# Altium schematic symbol library kmilo17pet-TI_BattMgmt.SchLib: 950 symbols (part 4 of 60)
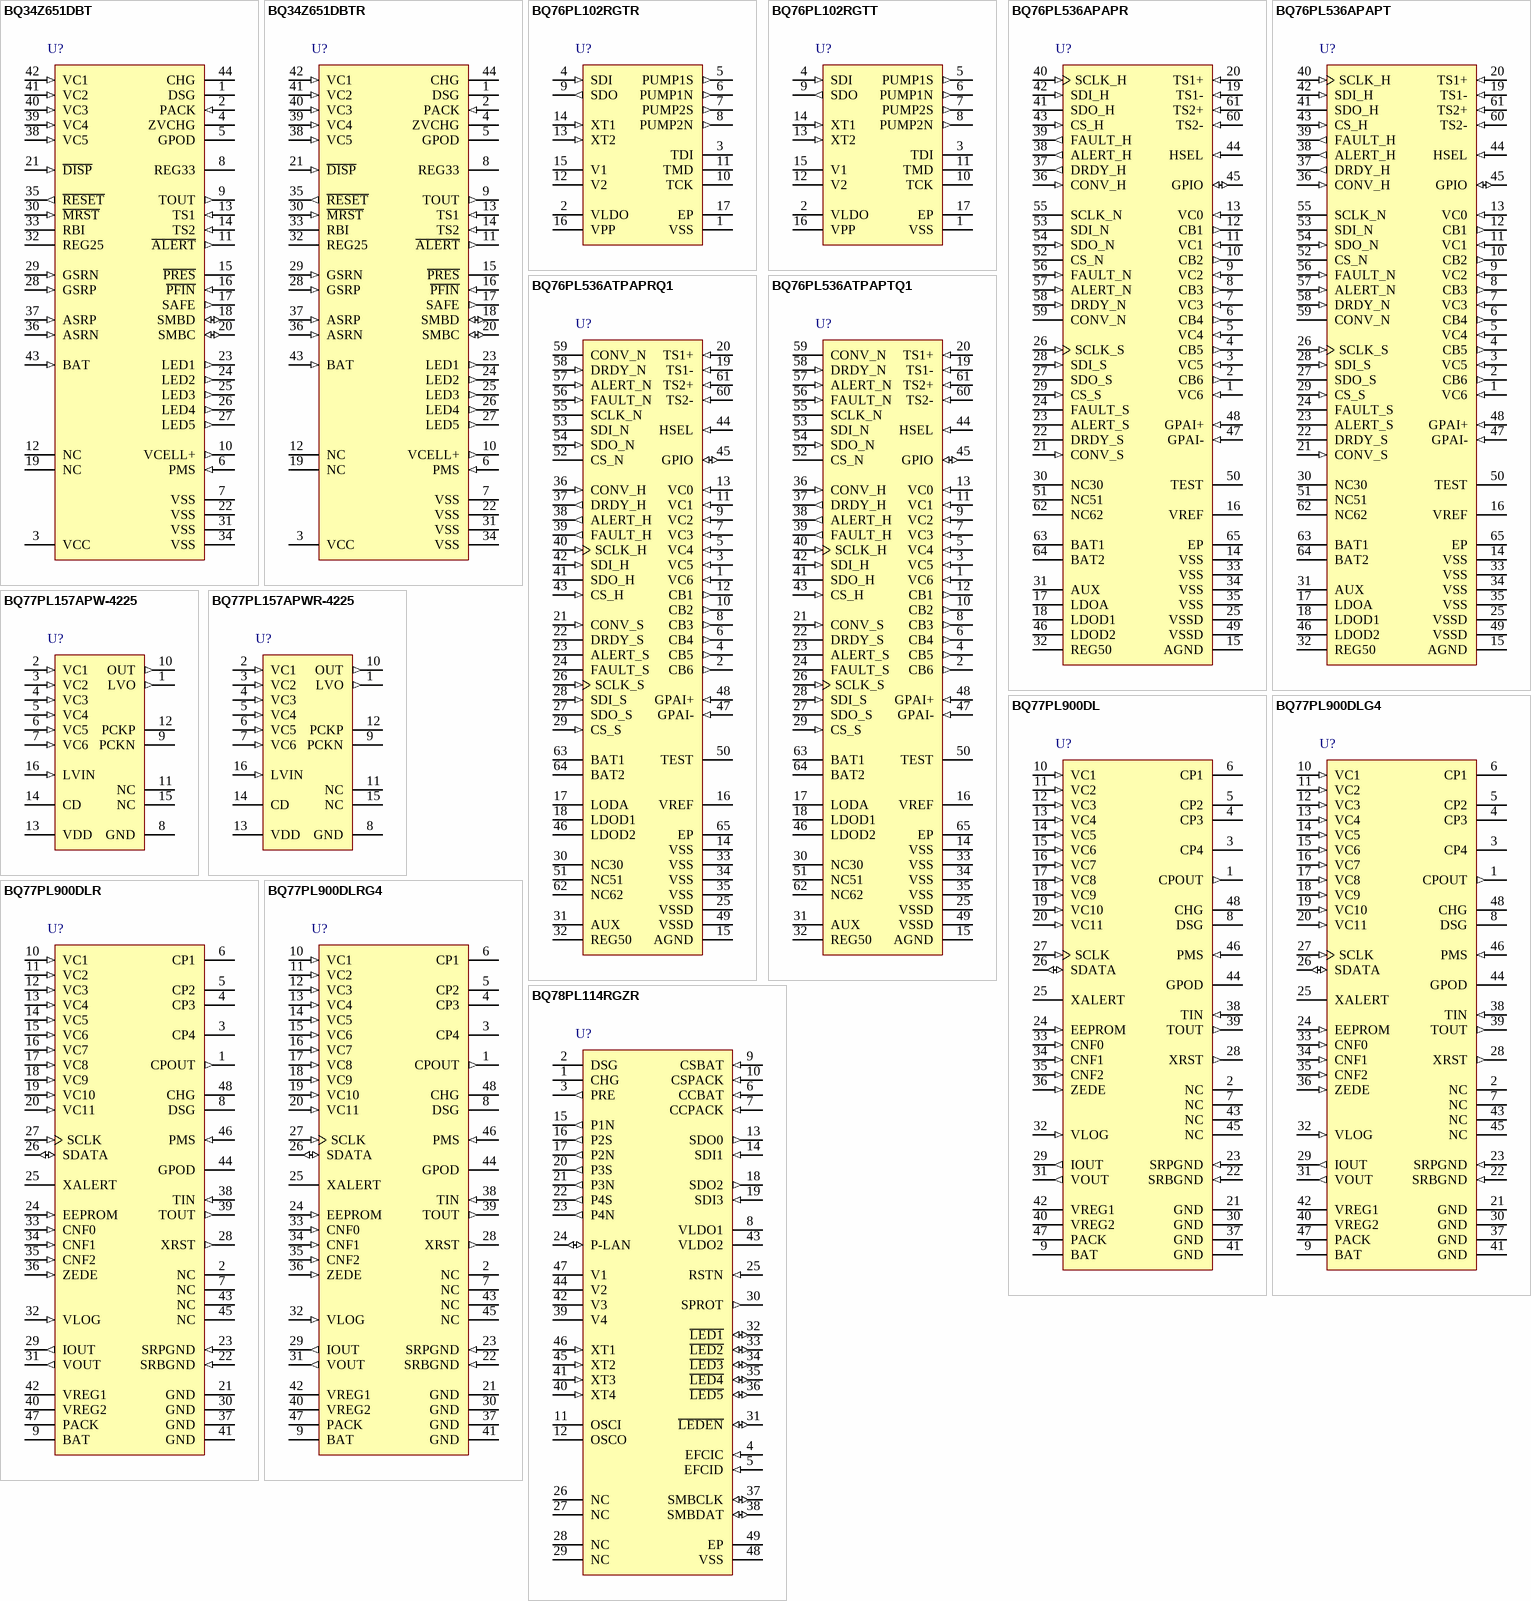
[diagram p37: symbols BQ34Z651DBT to BQ78PL114RGZR]

## BQ34Z651DBTR
designator U?
SBS 1.1 Compliant Gas Gauge with Impedance Track Technology Design for Low Temperature Environment, -40 to 85 degC, 44-pin TSSOP (DBT), Green (RoHS & no Sb/Br); PartNumber: BQ34Z651DBTR; Manufacturer: Texas Instruments; Lead Acid: N; Li-Ion: Y; SubFamily: Battery Fuel Gauge; DatasheetVersion: SLUSAL7; PackageVersion: 38596; PackageReference: DBT44; PackageDescription: 44-Pin Thin Shrink Small Outline Package 0.5 mm Pitch; Supplier 1: Digi-Key; Supplier Part Number 1: BQ34Z651DBTR-ND; Supplier Part Number 3: 595-BQ34Z651DBTR; Eco-Plan: Green (RoHS & no Sb/Br); Li-Polymer: N; NiCd: N; NiMH: N; Over Voltage Protection: N; Mounting Technology: Surface Mount; ComponentLink1Description: Datasheet; ComponentLink1URL: http://www.ti.com/general/docs/lit/getliterature.tsp?genericPartNumber=BQ34Z651&fileType=pdf
footprint DBT44_N (TSSOP, 44-Leads, Body 11.3x4.4mm, Pitch 0.5mm, IPC Medium Density)
footprint DBT44_L (TSSOP, 44-Leads, Body 11.3x4.4mm, Pitch 0.5mm, IPC High Density)
footprint DBT44_M (TSSOP, 44-Leads, Body 11.3x4.4mm, Pitch 0.5mm, IPC Low Density)
pins: 1 DSG "High side N-chan discharge FET gate drive", 2 PACK (in) "Battery pack input voltage sense input. It also serves as device wake up when device is in shutdown mode.", 3 VCC (power) "Positive device supply input. Connect to the center connection of the CHG FET and DSG FET to ensure device supply either from battery stack or battery pack input", 4 ZVCHG "P-chan pre-charge FET gate drive", 5 GPOD "High voltage general purpose open drain output. Can be configured to be used in pre-charge condition", 6 PMS (in) "Pre-charge mode setting input. Connect to PACK to enable 0v pre-charge using charge FET connected at CHG pin. Connect to VSS to disable 0-V pre-charge using charge FET connected at CHG pin.", 7 VSS (power) "Negative supply voltage input. Connect all VSS pins together for operation of device", 8 REG33 (power) "3.3-V regulator output. Connect at least a 2.2-uF capacitor to REG33 and VSS", 9 TOUT (out) "Thermistor bias supply output", 10 VCELL+ (out) "Internal cell voltage multiplexer and amplifier output. Connect a 0.1-uF capacitor to VCELL+ and VSS", 11 ~{ALERT} (out) "Alert output. In case of short circuit condition, overload condition and watchdog time out this pin will be triggered", 12 NC "Not used--leave floating.", 13 TS1 (in) "1st Thermistor voltage input connection to monitor temperature", 14 TS2 (in) "2nd Thermistor voltage input connection to monitor temperature", 15 ~{PRES} "Active low input to sense system insertion. Typically requires additional ESD protection.", 16 ~{PFIN} (in) "Active low input to detect secondary protector status, and to allow the bq20z655-R1 to report the status of the 2nd level protection input.", 17 SAFE (out) "Active high output to enforce additional level of safety protection; e.g., fuse blow.", 18 SMBD (io) "SMBus data open-drain bidirectional pin used to transfer address and data to and from the bq20z655-R1", 19 NC "Not used--leave floating.", 20 SMBC (io) "SMBus clock open-drain bidirectional pin used to clock the data transfer to and from the bq20z655-R1", 21 ~{DISP} (in) "Input: In LED mode, this is the display enable input.", 22 VSS (power) "Negative supply voltage input. Connect all VSS pins together for operation of device", 23 LED1 (out) "LED1 display segment that drives an external LED depending on the firmware configuration", 24 LED2 (out) "LED2 display segment that drives an external LED depending on the firmware configuration", 25 LED3 (out) "LED3 display segment that drives an external LED depending on the firmware configuration", 26 LED4 (out) "LED4 display segment that drives an external LED depending on the firmware configuration", 27 LED5 (out) "LED5 display segment that drives an external LED depending on the firmware configuration", 28 GSRP (in) "Coulomb counter differential input. Connect to one side of the sense resistor", 29 GSRN (in) "Coulomb counter differential input. Connect to one side of the sense resistor", 30 ~{MRST} (in) "Master reset input that forces the device into reset when held low. Must be held high for normal operation. Connect to R\E\S\E\T\ for correct operation of device", 31 VSS (power) "Negative supply voltage input. Connect all VSS pins together for operation of device", 32 REG25 (power) "2.5V regulator output. Connect at least a 1-mF capacitor to REG25 and VSS", 33 RBI (power) "RAM / Register backup input. Connect a capacitor to this pin and VSS to protect loss of RAM/Register data in case of short circuit condition.", 34 VSS (power) "Negative supply voltage input. Connect all VSS pins together for operation of device", 35 ~{RESET} (out) "Reset output. Connect to M\S\R\T\.", 36 ASRN (in) "Short circuit and overload detection differential input. Connect to sense resistor", 37 ASRP (in) "Short circuit and overload detection differential input. Connect to sense resistor", 38 VC5 (in) "Cell voltage sense input and cell balancing input for the negative voltage of the bottom cell in cell stack.", 39 VC4 (in) "Cell voltage sense input and cell balancing input for the positive voltage of the bottom cell and the negative voltage of the second lowest cell in cell stack.", 40 VC3 (in) "Cell voltage sense input and cell balancing input for the positive voltage of the second lowest cell in cell stack and the negative voltage of the second highest cell in 4 cell applications.", 41 VC2 (in) "Cell voltage sense input and cell balancing input for the positive voltage of the second highest cell and the negative voltage of the highest cell in 4 cell applications. Connect to VC3 in 2 cell stack applications.", 42 VC1 (in) "Cell voltage sense input and cell balancing input for the positive voltage of the highest cell in cell stack in 4 cell applications. Connect to VC2 in 2- or 3-stack applications.", 43 BAT (in) "Battery stack voltage sense input.", 44 CHG "High side N-channel charge FET gate drive"

## BQ76PL102RGTR
designator U?
PowerLAN Dual-Cell Li-Ion Battery Monitor with PowerPump Cell Balancing, -40 to 85 degC, 16-pin QFN (RGT), Green (RoHS & no Sb/Br); PartNumber: BQ76PL102RGTR; Manufacturer: Texas Instruments; Lead Acid: N; Li-Ion: Y; SubFamily: Battery Fuel Gauge; DatasheetVersion: SLUS887A; PackageVersion: revH, Oct-2011; PackageReference: RGT16-1650X1650TP; PackageDescription: 16-Pin Plastic Quad Flat No-Lead, 3 x 3 mm Body, 0.5 mm Pitch, 1.7 x 1.7 mm Exposed Pad; Supplier 1: Digi-Key; Supplier Part Number 1: 296-27731-2-ND; Supplier Part Number 3: 296-27731-6-ND; Eco-Plan: Green (RoHS & no Sb/Br); Li-Polymer: Y; NiCd: N; NiMH: N; Over Voltage Protection: N; Mounting Technology: Surface Mount; Code_JEDEC: MO-220; ComponentLink1Description: Datasheet; ComponentLink1URL: http://www.ti.com/general/docs/lit/getliterature.tsp?genericPartNumber=BQ76PL102&fileType=pdf
footprint RGT16-1650X1650TP (QFN, 16-Leads, Body 3x3mm, Pitch 0.5mm, Thermal Pad 1.7x1.7mm, TI Recommended)
pins: 1 VSS (power) "Connect to most-negative cell voltage (cell 1 negative)", 2 VLDO (power) "Low-dropout regulator output - connect to VPP (bypass with 4.7 uF capacitor)", 3 TDI "Do not connect", 4 SDI (in) "PowerLAN serial data input from lower south, downstream part", 5 PUMP1S (out) "Charge-balance gate drive for cell 1 south", 6 PUMP1N (out) "Charge-balance gate drive for cell 1 north", 7 PUMP2S (out) "Charge-balance gate drive cell 2 south", 8 PUMP2N (out) "Charge-balance gate drive cell 2 north", 9 SDO (out) "PowerLAN serial data output to north, upstream part", 10 TCK "Do not connect", 11 TMD "Do not connect", 12 V2 (power) "Connect to most-positive cell voltage (cell 2 positive)", 13 XT2 (in) "External temperature sensor 2 input (calibrated 50 uA)", 14 XT1 (in) "External temperature sensor 1 input (calibrated 50 uA)", 15 V1 (power) "Midpoint cell connection (cell 1 positive and cell 2 negative)", 16 VPP (power) "Connect to VLDO", 17 EP (power) "Thermal pad - connect to VSS"

## BQ76PL102RGTT
designator U?
PowerLAN Dual-Cell Li-Ion Battery Monitor with PowerPump Cell Balancing, -40 to 85 degC, 16-pin QFN (RGT), Green (RoHS & no Sb/Br); PartNumber: BQ76PL102RGTT; Manufacturer: Texas Instruments; Lead Acid: N; Li-Ion: Y; SubFamily: Battery Fuel Gauge; DatasheetVersion: SLUS887A; PackageVersion: revH, Oct-2011; PackageReference: RGT16-1650X1650TP; PackageDescription: 16-Pin Plastic Quad Flat No-Lead, 3 x 3 mm Body, 0.5 mm Pitch, 1.7 x 1.7 mm Exposed Pad; Supplier 1: Digi-Key; Supplier Part Number 1: 296-25333-2-ND; Supplier Part Number 3: 296-25333-6-ND; Eco-Plan: Green (RoHS & no Sb/Br); Li-Polymer: Y; NiCd: N; NiMH: N; Over Voltage Protection: N; Mounting Technology: Surface Mount; Code_JEDEC: MO-220; ComponentLink1Description: Datasheet; ComponentLink1URL: http://www.ti.com/general/docs/lit/getliterature.tsp?genericPartNumber=BQ76PL102&fileType=pdf
footprint RGT16-1650X1650TP (QFN, 16-Leads, Body 3x3mm, Pitch 0.5mm, Thermal Pad 1.7x1.7mm, TI Recommended)
pins: 1 VSS (power) "Connect to most-negative cell voltage (cell 1 negative)", 2 VLDO (power) "Low-dropout regulator output - connect to VPP (bypass with 4.7 uF capacitor)", 3 TDI "Do not connect", 4 SDI (in) "PowerLAN serial data input from lower south, downstream part", 5 PUMP1S (out) "Charge-balance gate drive for cell 1 south", 6 PUMP1N (out) "Charge-balance gate drive for cell 1 north", 7 PUMP2S (out) "Charge-balance gate drive cell 2 south", 8 PUMP2N (out) "Charge-balance gate drive cell 2 north", 9 SDO (out) "PowerLAN serial data output to north, upstream part", 10 TCK "Do not connect", 11 TMD "Do not connect", 12 V2 (power) "Connect to most-positive cell voltage (cell 2 positive)", 13 XT2 (in) "External temperature sensor 2 input (calibrated 50 uA)", 14 XT1 (in) "External temperature sensor 1 input (calibrated 50 uA)", 15 V1 (power) "Midpoint cell connection (cell 1 positive and cell 2 negative)", 16 VPP (power) "Connect to VLDO", 17 EP (power) "Thermal pad - connect to VSS"

## BQ76PL536APAPR
designator U?
Lithium-Ion Battery Monitor and Secondary Protection IC for Electric and Hybrid, -40 to 85 degC, 64-pin HTQFP (PAP), Green (RoHS & no Sb/Br); PartNumber: BQ76PL536APAPR; Manufacturer: Texas Instruments; Lead Acid: N; Li-Ion: Y; SubFamily: Lithium Ion Protection; DatasheetVersion: SLUSAD3; PackageVersion: revC, Aug-2003; PackageReference: PAP64-5900X5900TP; PackageDescription: 64-Pin PowerPAD Plastic Quad Flatpack, 10 x 10 mm Body, 0.5 mm Pitch, Exposed Pad; Supplier 1: Digi-Key; Supplier Part Number 1: BQ76PL536APAPR-ND; Supplier Part Number 3: 595-BQ76PL536APAPR; Eco-Plan: Green (RoHS & no Sb/Br); Li-Polymer: Y; NiCd: N; NiMH: N; Over Voltage Protection: Y; Mounting Technology: Surface Mount; Code_JEDEC: MS-026; ComponentLink1Description: Datasheet; ComponentLink1URL: http://www.ti.com/general/docs/lit/getliterature.tsp?genericPartNumber=BQ76PL536A&fileType=pdf
footprint PAP64-5900X5900TP_N (Thin QFP, 64-Leads, Body 10x10mm, Pitch 0.5mm, Thermal Pad 6.5x6.5mm, IPC Medium Density)
footprint PAP64-5900X5900TP_L (Thin QFP, 64-Leads, Body 10x10mm, Pitch 0.5mm, Thermal Pad 6.5x6.5mm, IPC High Density)
footprint PAP64-5900X5900TP_M (Thin QFP, 64-Leads, Body 10x10mm, Pitch 0.5mm, Thermal Pad 6.5x6.5mm, IPC Low Density)
pins: 1 VC6 (in) "Sense voltage input terminal for the positive terminal of the sixth cell", 2 CB6 (out) "Cell-balance control output", 3 VC5 (in) "Sense voltage input terminal for the positive terminal of the fifth cell", 4 CB5 (out) "Cell-balance control output", 5 VC4 (in) "Sense voltage input terminal for the positive terminal of the fourth cell", 6 CB4 (out) "Cell-balance control output", 7 VC3 (in) "Sense voltage input terminal for the positive terminal of the third cell", 8 CB3 (out) "Cell-balance control output", 9 VC2 (in) "Sense voltage input terminal for the positive terminal of the second cell", 10 CB2 (out) "Cell-balance control output", 11 VC1 (in) "Sense voltage input terminal for positive terminal of the first cell", 12 CB1 (out) "Cell-balance control output", 13 VC0 (in) "Sense-voltage input terminal for negative terminal of first cell (VSS)", 14 VSS (power), 15 AGND (power) "Internal analog VREF (-)", 16 VREF "Internal analog voltage reference (+), requires 10-uF, low-ESR ceramic capacitor to AGND for stability", 17 LDOA (power) "Internal analog 5-V LDO bypass connection, requires 2.2-uF ceramic capacitor for stability", 18 LDOD1 (power) "Internal digital 5-V LDO bypass connection 1, requires 2.2-uF ceramic capacitor for stability. This pin is tied internally to LDOD2. This pin should be tied to LDOD2 externally.", 19 TS1- (in) "Differential temperature sensor input", 20 TS1+ (in) "Differential temperature sensor input", 21 CONV_S (in) "Input from the adjacent lower bq76PL536A to initiate a conversion", 22 DRDY_S (oc) "Current-mode output indicating conversion data is ready to the next lower bq76PL536A", 23 ALERT_S (oc) "Current-mode output indicating a system status change to the next lower bq76PL536A", 24 FAULT_S (oc) "Current-mode output", 25 VSSD (power) "VSS", 26 SCLK_S (in) "Current-mode input SPI clock from the next-lower bq76PL536A", 27 SDO_S (oc) "Current-mode output for SPI data to the next-lower bq76PL536A", 28 SDI_S (in) "Current-mode input for SPI data from the next-lower bq76PL536A", 29 CS_S (in) "Current-mode input SPI chip-select (slave-select) from the next-lower bq76PL536A", 30 NC30 "No connection", 31 AUX (power) "Switched 1-mA limited output from REG50", 32 REG50 (power) "5-V user LDO output, requires 2.2-uF ceramic capacitor for stability", 33 VSS (power), 34 VSS (power), 35 VSS (power), 36 CONV_H (in) "Host-to-device interface - initiates a synchronous conversion. Pin has 250-nA internal sink to VSS.", 37 DRDY_H (out) "Host-to-device interface - conversion complete, data-ready indication", 38 ALERT_H (out) "Host-to-device interface - ALERT condition detected in this or higher (North) device", 39 FAULT_H (out) "Host-to-device interface - FAULT condition detected in this or higher (North) device", 40 SCLK_H (in) "Host-to-device interface - SPI clock from host", 41 SDO_H (hiz) "Host-to-device interface - data from device to host (host MISO signal), 3-state pin, 250-nA internal pullup", 42 SDI_H (in) "Host-to-device interface - data from host to device (host MOSI signal)", 43 CS_H (in) "Host-to-device interface - active-low chip select from host. Internal 100-kohm pullup resistor", 44 HSEL (in) "Host interface enable, 0 = enable, 1 = disable", 45 GPIO (io) "Digital open-drain I/O. A 10-kohm to 2-Mohm pullup is recommended.", 46 LDOD2 (power) "Internal digital 5-V LDO bypass connection 2, requires 2.2-uF ceramic capacitor for stability. This pin is tied internally to LDOD1. This pin should be tied to LDOD1 externally.", 47 GPAI- (in) "General-purpose (differential) analog input, connect to VSS if unused.", 48 GPAI+ (in) "General-purpose (differential) analog input, connect to VSS if unused.", 49 VSSD (power) "VSS", 50 TEST "Factory test pin. Connect to VSS in user circuitry. This pin includes ~100-kohm internal pulldown", 51 NC51 "No connect", 52 CS_N (oc) "Current-mode output used to select the next-higher bq76PL536A for SPI communication", 53 SDI_N (oc) "Current-mode output for SPI data to the next-higher bq76PL536A", 54 SDO_N (in) "Current-mode input for SPI data from the next-lower bq76PL536A", 55 SCLK_N (oc) "Current-mode output SPI clock to the next-higher bq76PL536A", 56 FAULT_N (in) "Current-mode input indicating a system status change from the next-higher bq76PL536A", 57 ALERT_N (in) "Current-mode input indicating a system status change from the next-higher bq76PL536A", 58 DRDY_N (in) "Current-mode input indicating conversion data is ready from next-higher bq76PL536A", 59 CONV_N (oc) "Current-mode output to the next-higher bq76PL536A to initiate a conversion", 60 TS2- (in) "Differential temperature sensor input", 61 TS2+ (in) "Differential temperature sensor input", 62 NC62 "No connect", 63 BAT1 (power) "Power-supply voltage, connect to most-positive cell +, tie to BAT2 on PCB", 64 BAT2 (power) "Power-supply voltage, connect to most-positive cell +, tie to BAT1 on PCB", 65 EP (power) "Thermal pad on bottom of PowerPAD package; this must be soldered to similar-size copper area on PCB and connected to VSS, to meet stated specifications herein. Provides heat-sinking to part."

## BQ76PL536APAPT
designator U?
Lithium-Ion Battery Monitor and Secondary Protection IC for Electric and Hybrid, -40 to 85 degC, 64-pin HTQFP (PAP), Green (RoHS & no Sb/Br); PartNumber: BQ76PL536APAPT; Manufacturer: Texas Instruments; Lead Acid: N; Li-Ion: Y; SubFamily: Lithium Ion Protection; DatasheetVersion: SLUSAD3; PackageVersion: revC, Aug-2003; PackageReference: PAP64-5900X5900TP; PackageDescription: 64-Pin PowerPAD Plastic Quad Flatpack, 10 x 10 mm Body, 0.5 mm Pitch, Exposed Pad; Supplier 1: Digi-Key; Supplier Part Number 1: 296-28926-2-ND; Supplier Part Number 3: 296-28926-6-ND; Eco-Plan: Green (RoHS & no Sb/Br); Li-Polymer: Y; NiCd: N; NiMH: N; Over Voltage Protection: Y; Mounting Technology: Surface Mount; Code_JEDEC: MS-026; ComponentLink1Description: Datasheet; ComponentLink1URL: http://www.ti.com/general/docs/lit/getliterature.tsp?genericPartNumber=BQ76PL536A&fileType=pdf
footprint PAP64-5900X5900TP_N (Thin QFP, 64-Leads, Body 10x10mm, Pitch 0.5mm, Thermal Pad 6.5x6.5mm, IPC Medium Density)
footprint PAP64-5900X5900TP_L (Thin QFP, 64-Leads, Body 10x10mm, Pitch 0.5mm, Thermal Pad 6.5x6.5mm, IPC High Density)
footprint PAP64-5900X5900TP_M (Thin QFP, 64-Leads, Body 10x10mm, Pitch 0.5mm, Thermal Pad 6.5x6.5mm, IPC Low Density)
pins: 1 VC6 (in) "Sense voltage input terminal for the positive terminal of the sixth cell", 2 CB6 (out) "Cell-balance control output", 3 VC5 (in) "Sense voltage input terminal for the positive terminal of the fifth cell", 4 CB5 (out) "Cell-balance control output", 5 VC4 (in) "Sense voltage input terminal for the positive terminal of the fourth cell", 6 CB4 (out) "Cell-balance control output", 7 VC3 (in) "Sense voltage input terminal for the positive terminal of the third cell", 8 CB3 (out) "Cell-balance control output", 9 VC2 (in) "Sense voltage input terminal for the positive terminal of the second cell", 10 CB2 (out) "Cell-balance control output", 11 VC1 (in) "Sense voltage input terminal for positive terminal of the first cell", 12 CB1 (out) "Cell-balance control output", 13 VC0 (in) "Sense-voltage input terminal for negative terminal of first cell (VSS)", 14 VSS (power), 15 AGND (power) "Internal analog VREF (-)", 16 VREF "Internal analog voltage reference (+), requires 10-uF, low-ESR ceramic capacitor to AGND for stability", 17 LDOA (power) "Internal analog 5-V LDO bypass connection, requires 2.2-uF ceramic capacitor for stability", 18 LDOD1 (power) "Internal digital 5-V LDO bypass connection 1, requires 2.2-uF ceramic capacitor for stability. This pin is tied internally to LDOD2. This pin should be tied to LDOD2 externally.", 19 TS1- (in) "Differential temperature sensor input", 20 TS1+ (in) "Differential temperature sensor input", 21 CONV_S (in) "Input from the adjacent lower bq76PL536A to initiate a conversion", 22 DRDY_S (oc) "Current-mode output indicating conversion data is ready to the next lower bq76PL536A", 23 ALERT_S (oc) "Current-mode output indicating a system status change to the next lower bq76PL536A", 24 FAULT_S (oc) "Current-mode output", 25 VSSD (power) "VSS", 26 SCLK_S (in) "Current-mode input SPI clock from the next-lower bq76PL536A", 27 SDO_S (oc) "Current-mode output for SPI data to the next-lower bq76PL536A", 28 SDI_S (in) "Current-mode input for SPI data from the next-lower bq76PL536A", 29 CS_S (in) "Current-mode input SPI chip-select (slave-select) from the next-lower bq76PL536A", 30 NC30 "No connection", 31 AUX (power) "Switched 1-mA limited output from REG50", 32 REG50 (power) "5-V user LDO output, requires 2.2-uF ceramic capacitor for stability", 33 VSS (power), 34 VSS (power), 35 VSS (power), 36 CONV_H (in) "Host-to-device interface - initiates a synchronous conversion. Pin has 250-nA internal sink to VSS.", 37 DRDY_H (out) "Host-to-device interface - conversion complete, data-ready indication", 38 ALERT_H (out) "Host-to-device interface - ALERT condition detected in this or higher (North) device", 39 FAULT_H (out) "Host-to-device interface - FAULT condition detected in this or higher (North) device", 40 SCLK_H (in) "Host-to-device interface - SPI clock from host", 41 SDO_H (hiz) "Host-to-device interface - data from device to host (host MISO signal), 3-state pin, 250-nA internal pullup", 42 SDI_H (in) "Host-to-device interface - data from host to device (host MOSI signal)", 43 CS_H (in) "Host-to-device interface - active-low chip select from host. Internal 100-kohm pullup resistor", 44 HSEL (in) "Host interface enable, 0 = enable, 1 = disable", 45 GPIO (io) "Digital open-drain I/O. A 10-kohm to 2-Mohm pullup is recommended.", 46 LDOD2 (power) "Internal digital 5-V LDO bypass connection 2, requires 2.2-uF ceramic capacitor for stability. This pin is tied internally to LDOD1. This pin should be tied to LDOD1 externally.", 47 GPAI- (in) "General-purpose (differential) analog input, connect to VSS if unused.", 48 GPAI+ (in) "General-purpose (differential) analog input, connect to VSS if unused.", 49 VSSD (power) "VSS", 50 TEST "Factory test pin. Connect to VSS in user circuitry. This pin includes ~100-kohm internal pulldown", 51 NC51 "No connect", 52 CS_N (oc) "Current-mode output used to select the next-higher bq76PL536A for SPI communication", 53 SDI_N (oc) "Current-mode output for SPI data to the next-higher bq76PL536A", 54 SDO_N (in) "Current-mode input for SPI data from the next-lower bq76PL536A", 55 SCLK_N (oc) "Current-mode output SPI clock to the next-higher bq76PL536A", 56 FAULT_N (in) "Current-mode input indicating a system status change from the next-higher bq76PL536A", 57 ALERT_N (in) "Current-mode input indicating a system status change from the next-higher bq76PL536A", 58 DRDY_N (in) "Current-mode input indicating conversion data is ready from next-higher bq76PL536A", 59 CONV_N (oc) "Current-mode output to the next-higher bq76PL536A to initiate a conversion", 60 TS2- (in) "Differential temperature sensor input", 61 TS2+ (in) "Differential temperature sensor input", 62 NC62 "No connect", 63 BAT1 (power) "Power-supply voltage, connect to most-positive cell +, tie to BAT2 on PCB", 64 BAT2 (power) "Power-supply voltage, connect to most-positive cell +, tie to BAT1 on PCB", 65 EP (power) "Thermal pad on bottom of PowerPAD package; this must be soldered to similar-size copper area on PCB and connected to VSS, to meet stated specifications herein. Provides heat-sinking to part."

## BQ76PL536ATPAPRQ1
designator U?
3 to 6 Series Cell Lithium-Ion Battery Monitor and Secondary Protection IC for EV & HEV Applications, -40 to 105 degC, 64-pin HTQFP (PAP), Green (RoHS & no Sb/Br); PartNumber: BQ76PL536ATPAPRQ1; Manufacturer: Texas Instruments; Lead Acid: N; Li-Ion: Y; SubFamily: Lithium Ion Protection; DatasheetVersion: SLUSAM3; PackageVersion: revC, Aug-2003; PackageReference: PAP64-5900X5900TP; PackageDescription: 64-Pin PowerPAD Plastic Quad Flatpack, 10 x 10 mm Body, 0.5 mm Pitch, Exposed Pad; Supplier 1: Digi-Key; Supplier Part Number 1: BQ76PL536ATPAPRQ1-ND; Eco-Plan: Green (RoHS & no Sb/Br); Li-Polymer: Y; NiCd: N; NiMH: N; Over Voltage Protection: Y; Mounting Technology: Surface Mount; Code_JEDEC: MS-026; ComponentLink1Description: Datasheet; ComponentLink1URL: http://www.ti.com/general/docs/lit/getliterature.tsp?genericPartNumber=BQ76PL536A-Q1&fileType=pdf
footprint PAP64-5900X5900TP_N (Thin QFP, 64-Leads, Body 10x10mm, Pitch 0.5mm, Thermal Pad 6.5x6.5mm, IPC Medium Density)
footprint PAP64-5900X5900TP_L (Thin QFP, 64-Leads, Body 10x10mm, Pitch 0.5mm, Thermal Pad 6.5x6.5mm, IPC High Density)
footprint PAP64-5900X5900TP_M (Thin QFP, 64-Leads, Body 10x10mm, Pitch 0.5mm, Thermal Pad 6.5x6.5mm, IPC Low Density)
pins: 1 VC6 (in) "Sense voltage input terminal for the positive terminal of the sixth cell", 2 CB6 (out) "Cell-balance control output", 3 VC5 (in) "Sense voltage input terminal for the positive terminal of the fifth cell", 4 CB5 (out) "Cell-balance control output", 5 VC4 (in) "Sense voltage input terminal for the positive terminal of the fourth cell", 6 CB4 (out) "Cell-balance control output", 7 VC3 (in) "Sense voltage input terminal for the positive terminal of the third cell", 8 CB3 (out) "Cell-balance control output", 9 VC2 (in) "Sense voltage input terminal for the positive terminal of the second cell", 10 CB2 (out) "Cell-balance control output", 11 VC1 (in) "Sense voltage input terminal for positive terminal of the first cell", 12 CB1 (out) "Cell-balance control output", 13 VC0 (in) "Sense-voltage input terminal for negative terminal of first cell (VSS)", 14 VSS (power), 15 AGND (power) "Internal analog VREF (-)", 16 VREF "Internal analog voltage reference (+), requires 10-uF, low-ESR ceramic capacitor to AGND for stability", 17 LODA (power) "Internal analog 5-V LDO bypass connection, requires 2.2-uF ceramic capacitor for stability", 18 LDOD1 (power) "Internal digital 5-V LDO bypass connection 1, requires 2.2-uF ceramic capacitor for stability. This pin is tied internally to LDOD2. This pin should be tied to LDOD2 externally.", 19 TS1- (in) "Differential temperature sensor input", 20 TS1+ (in) "Differential temperature sensor input", 21 CONV_S (in) "Input from the adjacent lower bq76PL536A-Q1 to initiate a conversion", 22 DRDY_S (oc) "Current-mode output indicating conversion data is ready to the next lower bq76PL536A-Q1", 23 ALERT_S (oc) "Current-mode output indicating a system status change to the next lower bq76PL536A-Q1", 24 FAULT_S (oc) "Current-mode output", 25 VSSD (power) "VSS", 26 SCLK_S (in) "Current-mode input SPI clock from the next-lower bq76PL536A-Q1", 27 SDO_S (oc) "Current-mode output for SPI data to the next-lower bq76PL536A-Q1", 28 SDI_S (in) "Current-mode input for SPI data from the next-lower bq76PL536A-Q1", 29 CS_S (in) "Current-mode input SPI chip-select (slave-select) from the next-lower bq76PL536A-Q1", 30 NC30 "No connection", 31 AUX (power) "Switched 1-mA limited output from REG50", 32 REG50 (power) "5-V user LDO output, requires 2.2-uF ceramic capacitor for stability", 33 VSS (power), 34 VSS (power), 35 VSS (power), 36 CONV_H (in) "Host-to-device interface - initiates a synchronous conversion. Pin has 250-nA internal sink to VSS.", 37 DRDY_H (out) "Host-to-device interface - conversion complete, data-ready indication", 38 ALERT_H (out) "Host-to-device interface - ALERT condition detected in this or higher (North) device", 39 FAULT_H (out) "Host-to-device interface - FAULT condition detected in this or higher (North) device", 40 SCLK_H (in) "Host-to-device interface - SPI clock from host", 41 SDO_H (hiz) "Host-to-device interface - data from device to host (host MISO signal), 3-state pin, 250-nA internal pullup", 42 SDI_H (in) "Host-to-device interface - data from host to device (host MOSI signal)", 43 CS_H (in) "Host-to-device interface - active-low chip select from host. Internal 100-kO pullup resistor", 44 HSEL (in) "Host interface enable, 0 = enable, 1 = disable", 45 GPIO (io) "Digital open-drain I/O. A 10-kO to 2-MO pullup is recommended.", 46 LDOD2 (power) "Internal digital 5-V LDO bypass connection 2, requires 2.2-uF ceramic capacitor for stability. This pin is tied internally to LDOD1. This pin should be tied to LDOD1 externally.", 47 GPAI- (in) "General-purpose (differential) analog input, connect to VSS if unused.", 48 GPAI+ (in) "General-purpose (differential) analog input, connect to VSS if unused.", 49 VSSD (power) "VSS", 50 TEST "Factory test pin. Connect to VSS in user circuitry. This pin includes ~100-kO internal pulldown", 51 NC51 "No connect", 52 CS_N (oc) "Current-mode output used to select the next-higher bq76PL536A-Q1 for SPI communication", 53 SDI_N (oc) "Current-mode output for SPI data to the next-higher bq76PL536A-Q1", 54 SDO_N (in) "Current-mode input for SPI data from the next-lower bq76PL536A-Q1", 55 SCLK_N (oc) "Current-mode output SPI clock to the next-higher bq76PL536A-Q1", 56 FAULT_N (in) "Current-mode input indicating a system status change from the next-higher bq76PL536A-Q1", 57 ALERT_N (in) "Current-mode input indicating a system status change from the next-higher bq76PL536A-Q1", 58 DRDY_N (in) "Current-mode input indicating conversion data is ready from next-higher bq76PL536A-Q1", 59 CONV_N (oc) "Current-mode output to the next-higher bq76PL536A-Q1 to initiate a conversion", 60 TS2- (in) "Differential temperature sensor input", 61 TS2+ (in) "Differential temperature sensor input", 62 NC62 "No connect", 63 BAT1 (power) "Power-supply voltage, connect to most-positive cell +, tie to BAT2 on PCB", 64 BAT2 (power) "Power-supply voltage, connect to most-positive cell +, tie to BAT1 on PCB", 65 EP (power) "Thermal pad on bottom of PowerPAD package; this must be soldered to similar-size copper area on PCB and connected to VSS, to meet stated specifications herein. Provides heat-sinking to part."

## BQ76PL536ATPAPTQ1
designator U?
3 to 6 Series Cell Lithium-Ion Battery Monitor and Secondary Protection IC for EV & HEV Applications, -40 to 105 degC, 64-pin HTQFP (PAP), Green (RoHS & no Sb/Br); PartNumber: BQ76PL536ATPAPTQ1; Manufacturer: Texas Instruments; Lead Acid: N; Li-Ion: Y; SubFamily: Lithium Ion Protection; DatasheetVersion: SLUSAM3; PackageVersion: revC, Aug-2003; PackageReference: PAP64-5900X5900TP; PackageDescription: 64-Pin PowerPAD Plastic Quad Flatpack, 10 x 10 mm Body, 0.5 mm Pitch, Exposed Pad; Supplier 1: Digi-Key; Supplier Part Number 1: 296-28816-2-ND; Supplier Part Number 3: 296-28816-6-ND; Eco-Plan: Green (RoHS & no Sb/Br); Li-Polymer: Y; NiCd: N; NiMH: N; Over Voltage Protection: Y; Mounting Technology: Surface Mount; Code_JEDEC: MS-026; ComponentLink1Description: Datasheet; ComponentLink1URL: http://www.ti.com/general/docs/lit/getliterature.tsp?genericPartNumber=BQ76PL536A-Q1&fileType=pdf
footprint PAP64-5900X5900TP_N (Thin QFP, 64-Leads, Body 10x10mm, Pitch 0.5mm, Thermal Pad 6.5x6.5mm, IPC Medium Density)
footprint PAP64-5900X5900TP_L (Thin QFP, 64-Leads, Body 10x10mm, Pitch 0.5mm, Thermal Pad 6.5x6.5mm, IPC High Density)
footprint PAP64-5900X5900TP_M (Thin QFP, 64-Leads, Body 10x10mm, Pitch 0.5mm, Thermal Pad 6.5x6.5mm, IPC Low Density)
pins: 1 VC6 (in) "Sense voltage input terminal for the positive terminal of the sixth cell", 2 CB6 (out) "Cell-balance control output", 3 VC5 (in) "Sense voltage input terminal for the positive terminal of the fifth cell", 4 CB5 (out) "Cell-balance control output", 5 VC4 (in) "Sense voltage input terminal for the positive terminal of the fourth cell", 6 CB4 (out) "Cell-balance control output", 7 VC3 (in) "Sense voltage input terminal for the positive terminal of the third cell", 8 CB3 (out) "Cell-balance control output", 9 VC2 (in) "Sense voltage input terminal for the positive terminal of the second cell", 10 CB2 (out) "Cell-balance control output", 11 VC1 (in) "Sense voltage input terminal for positive terminal of the first cell", 12 CB1 (out) "Cell-balance control output", 13 VC0 (in) "Sense-voltage input terminal for negative terminal of first cell (VSS)", 14 VSS (power), 15 AGND (power) "Internal analog VREF (-)", 16 VREF "Internal analog voltage reference (+), requires 10-uF, low-ESR ceramic capacitor to AGND for stability", 17 LODA (power) "Internal analog 5-V LDO bypass connection, requires 2.2-uF ceramic capacitor for stability", 18 LDOD1 (power) "Internal digital 5-V LDO bypass connection 1, requires 2.2-uF ceramic capacitor for stability. This pin is tied internally to LDOD2. This pin should be tied to LDOD2 externally.", 19 TS1- (in) "Differential temperature sensor input", 20 TS1+ (in) "Differential temperature sensor input", 21 CONV_S (in) "Input from the adjacent lower bq76PL536A-Q1 to initiate a conversion", 22 DRDY_S (oc) "Current-mode output indicating conversion data is ready to the next lower bq76PL536A-Q1", 23 ALERT_S (oc) "Current-mode output indicating a system status change to the next lower bq76PL536A-Q1", 24 FAULT_S (oc) "Current-mode output", 25 VSSD (power) "VSS", 26 SCLK_S (in) "Current-mode input SPI clock from the next-lower bq76PL536A-Q1", 27 SDO_S (oc) "Current-mode output for SPI data to the next-lower bq76PL536A-Q1", 28 SDI_S (in) "Current-mode input for SPI data from the next-lower bq76PL536A-Q1", 29 CS_S (in) "Current-mode input SPI chip-select (slave-select) from the next-lower bq76PL536A-Q1", 30 NC30 "No connection", 31 AUX (power) "Switched 1-mA limited output from REG50", 32 REG50 (power) "5-V user LDO output, requires 2.2-uF ceramic capacitor for stability", 33 VSS (power), 34 VSS (power), 35 VSS (power), 36 CONV_H (in) "Host-to-device interface - initiates a synchronous conversion. Pin has 250-nA internal sink to VSS.", 37 DRDY_H (out) "Host-to-device interface - conversion complete, data-ready indication", 38 ALERT_H (out) "Host-to-device interface - ALERT condition detected in this or higher (North) device", 39 FAULT_H (out) "Host-to-device interface - FAULT condition detected in this or higher (North) device", 40 SCLK_H (in) "Host-to-device interface - SPI clock from host", 41 SDO_H (hiz) "Host-to-device interface - data from device to host (host MISO signal), 3-state pin, 250-nA internal pullup", 42 SDI_H (in) "Host-to-device interface - data from host to device (host MOSI signal)", 43 CS_H (in) "Host-to-device interface - active-low chip select from host. Internal 100-kO pullup resistor", 44 HSEL (in) "Host interface enable, 0 = enable, 1 = disable", 45 GPIO (io) "Digital open-drain I/O. A 10-kO to 2-MO pullup is recommended.", 46 LDOD2 (power) "Internal digital 5-V LDO bypass connection 2, requires 2.2-uF ceramic capacitor for stability. This pin is tied internally to LDOD1. This pin should be tied to LDOD1 externally.", 47 GPAI- (in) "General-purpose (differential) analog input, connect to VSS if unused.", 48 GPAI+ (in) "General-purpose (differential) analog input, connect to VSS if unused.", 49 VSSD (power) "VSS", 50 TEST "Factory test pin. Connect to VSS in user circuitry. This pin includes ~100-kO internal pulldown", 51 NC51 "No connect", 52 CS_N (oc) "Current-mode output used to select the next-higher bq76PL536A-Q1 for SPI communication", 53 SDI_N (oc) "Current-mode output for SPI data to the next-higher bq76PL536A-Q1", 54 SDO_N (in) "Current-mode input for SPI data from the next-lower bq76PL536A-Q1", 55 SCLK_N (oc) "Current-mode output SPI clock to the next-higher bq76PL536A-Q1", 56 FAULT_N (in) "Current-mode input indicating a system status change from the next-higher bq76PL536A-Q1", 57 ALERT_N (in) "Current-mode input indicating a system status change from the next-higher bq76PL536A-Q1", 58 DRDY_N (in) "Current-mode input indicating conversion data is ready from next-higher bq76PL536A-Q1", 59 CONV_N (oc) "Current-mode output to the next-higher bq76PL536A-Q1 to initiate a conversion", 60 TS2- (in) "Differential temperature sensor input", 61 TS2+ (in) "Differential temperature sensor input", 62 NC62 "No connect", 63 BAT1 (power) "Power-supply voltage, connect to most-positive cell +, tie to BAT2 on PCB", 64 BAT2 (power) "Power-supply voltage, connect to most-positive cell +, tie to BAT1 on PCB", 65 EP (power) "Thermal pad on bottom of PowerPAD package; this must be soldered to similar-size copper area on PCB and connected to VSS, to meet stated specifications herein. Provides heat-sinking to part."

## BQ77PL157APW-4225
designator U?
Voltage Protection for 3 to 6 Series Cell Lithium-Ion / Polymer Batteries, -40 to 85 degC, 16-pin TSSOP (PW), Green (RoHS & no Sb/Br); PartNumber: BQ77PL157APW-4225; Manufacturer: Texas Instruments; Lead Acid: N; SubFamily: Lithium Ion Protection; DatasheetVersion: SLUSA00B; PackageVersion: revG, Feb-2011; PackageReference: PW16; PackageDescription: 16-Pin Plastic Thin Small Outline Package 5 x 4.4 mm Body ,0.65 mm Pitch; Supplier 1: Digi-Key; Supplier Part Number 1: BQ77PL157APW-4225-ND; Supplier Part Number 3: 595-BQ77PL157APW4225; Eco-Plan: Green (RoHS & no Sb/Br); Li-Ion: N; Li-Polymer: N; NiCd: N; NiMH: N; Over Voltage Protection: N; Mounting Technology: Surface Mount; Code_JEDEC: MO-153; ComponentLink1Description: Datasheet; ComponentLink1URL: http://www.ti.com/general/docs/lit/getliterature.tsp?genericPartNumber=BQ77PL157A4225&fileType=pdf
footprint PW16_N (TSOP, 16-Leads, Body 5x4.4mm, Pitch 0.65mm, IPC Medium Density)
footprint PW16_L (TSOP, 16-Leads, Body 5x4.4mm, Pitch 0.65mm, IPC High Density)
footprint PW16_M (TSOP, 16-Leads, Body 5x4.4mm, Pitch 0.65mm, IPC Low Density)
pins: 1 LVO (out) "Level-shift output (used for stacking, route this output to next-lower part)", 2 VC1 (in) "Sense voltage input for most positive cell", 3 VC2 (in) "Sense voltage input for second most positive cell", 4 VC3 (in) "Sense voltage input for third most positive cell", 5 VC4 (in) "Sense voltage input for fourth most positive cell", 6 VC5 (in) "Sense voltage input for fifth most positive cell", 7 VC6 (in) "Sense voltage input for least positive cell", 8 GND (power) "Ground pin and negative end of cell stack", 9 PCKN (power) "Pack negative supply for OUT driver (connect to source of external MOSFET or GND if device not at bottom of stack)", 10 OUT (out) "Output gate drive to external MOSFET", 11 NC "No connection", 12 PCKP (power) "Pack positive supply for OUT driver (connect to most positive cell input of device)", 13 VDD (power) "Power supply (via RC filter)", 14 CD "External capacitor to GND to set delay time", 15 NC "No connection", 16 LVIN (in) "Level-shift input (used for stacking, input is from next-higher part)"

## BQ77PL157APWR-4225
designator U?
Voltage Protection for 3 to 6 Series Cell Lithium-Ion / Polymer Batteries, -40 to 85 degC, 16-pin TSSOP (PW), Green (RoHS & no Sb/Br); PartNumber: BQ77PL157APWR-4225; Manufacturer: Texas Instruments; Lead Acid: N; SubFamily: Battery Management; DatasheetVersion: SLUSA00B; PackageVersion: revG, Feb-2011; PackageReference: PW16; PackageDescription: 16-Pin Plastic Thin Small Outline Package 5 x 4.4 mm Body ,0.65 mm Pitch; Supplier 1: Digi-Key; Supplier Part Number 1: 296-27488-2-ND; Supplier Part Number 3: 296-27488-6-ND; Eco-Plan: Green (RoHS & no Sb/Br); Li-Ion: N; Li-Polymer: N; NiCd: N; NiMH: N; Over Voltage Protection: N; Mounting Technology: Surface Mount; Code_JEDEC: MO-153; ComponentLink1Description: Datasheet; ComponentLink1URL: http://www.ti.com/general/docs/lit/getliterature.tsp?genericPartNumber=BQ77PL157A4225&fileType=pdf
footprint PW16_N (TSOP, 16-Leads, Body 5x4.4mm, Pitch 0.65mm, IPC Medium Density)
footprint PW16_L (TSOP, 16-Leads, Body 5x4.4mm, Pitch 0.65mm, IPC High Density)
footprint PW16_M (TSOP, 16-Leads, Body 5x4.4mm, Pitch 0.65mm, IPC Low Density)
pins: 1 LVO (out) "Level-shift output (used for stacking, route this output to next-lower part)", 2 VC1 (in) "Sense voltage input for most positive cell", 3 VC2 (in) "Sense voltage input for second most positive cell", 4 VC3 (in) "Sense voltage input for third most positive cell", 5 VC4 (in) "Sense voltage input for fourth most positive cell", 6 VC5 (in) "Sense voltage input for fifth most positive cell", 7 VC6 (in) "Sense voltage input for least positive cell", 8 GND (power) "Ground pin and negative end of cell stack", 9 PCKN (power) "Pack negative supply for OUT driver (connect to source of external MOSFET or GND if device not at bottom of stack)", 10 OUT (out) "Output gate drive to external MOSFET", 11 NC "No connection", 12 PCKP (power) "Pack positive supply for OUT driver (connect to most positive cell input of device)", 13 VDD (power) "Power supply (via RC filter)", 14 CD "External capacitor to GND to set delay time", 15 NC "No connection", 16 LVIN (in) "Level-shift input (used for stacking, input is from next-higher part)"

## BQ77PL900DL
designator U?
5 to 10 Cell Li-ion Battery Protection & AFE, -40 to 100 degC, 48-pin SSOP (DL), Green (RoHS & no Sb/Br); PartNumber: BQ77PL900DL; Manufacturer: Texas Instruments; Lead Acid: N; Li-Ion: Y; SubFamily: Lithium Ion Protection; DatasheetVersion: SLUS844B; PackageVersion: revE, Dec-2001; PackageReference: DL48; PackageDescription: 48-Pin Plastic Small Outline Package 0.635 mm Pitch; Supplier 1: Digi-Key; Supplier Part Number 1: 296-25928-5-ND; Supplier Part Number 3: 1640400; Eco-Plan: Green (RoHS & no Sb/Br); Li-Polymer: Y; NiCd: N; NiMH: N; Over Voltage Protection: Y; Mounting Technology: Surface Mount; Code_JEDEC: MO-118; ComponentLink1Description: Datasheet; ComponentLink1URL: http://www.ti.com/general/docs/lit/getliterature.tsp?genericPartNumber=BQ77PL900&fileType=pdf
footprint DL48_N (SOP, 48-Leads, Body 15.9x7.5mm, Pitch 0.635mm, IPC Medium Density)
footprint DL48_L (SOP, 48-Leads, Body 15.9x7.5mm, Pitch 0.635mm, IPC High Density)
footprint DL48_M (SOP, 48-Leads, Body 15.9x7.5mm, Pitch 0.635mm, IPC Low Density)
pins: 1 CPOUT (out) "Charge pump output and internal power source.", 2 NC "No connect (not electrically connected)", 3 CP4 "Charge pump capacitor 1 connection terminal", 4 CP3 "Charge pump capacitor 1 connection terminal", 5 CP2 "Charge pump capacitor 2 connection terminal", 6 CP1 "Charge pump capacitor 2 connection terminal", 7 NC "No connect (not electrically connected)", 8 DSG "Discharge FET gate drive", 9 BAT (power) "Power supply voltage", 10 VC1 (in) "Sense voltage input terminal for most positive cell, balance current input for most positive cell, and battery stack measurement input", 11 VC2 (in) "Sense voltage input terminal for second-most positive cell, balance current input for second-most positive cell, and return balance current for most positive cell", 12 VC3 (in) "Sense voltage input terminal for second-most positive cell, balance current input for third-most positive cell, and return balance current for second-most positive cell", 13 VC4 (in) "Sense voltage input terminal for fourth-most positive cell, balance current input for fourth-most positive cell, and return balance current for third-most positive cell", 14 VC5 (in) "Sense voltage input terminal for fifth-most positive cell, balance current input for fifth-most positive cell, and return balance current for fourth-most positive cell", 15 VC6 (in) "Sense voltage input terminal for sixth-most positive cell, balance current input for sixth-most positive cell, and return balance current for fifth-most positive cell", 16 VC7 (in) "Sense voltage input terminal for seventh-most positive cell, balance current input for seventh-most positive cell, and return balance current for sixth-most positive cell", 17 VC8 (in) "Sense voltage input terminal for eighth-most positive cell, balance current input for eighth-most positive cell, and return balance current for seventh-most positive cell", 18 VC9 (in) "Sense voltage input terminal for ninth-most positive cell, balance current input for ninth-most positive cell, and return balance current for eighth-most positive cell", 19 VC10 (in) "Sense voltage input terminal for tenth-most positive cell, balance current input for tenth-most positive cell, and return balance current for ninth-most positive cell", 20 VC11 (in) "Sense voltage input terminal for most negative cell, return balance current for least positive cell", 21 GND (power) "Power-supply ground", 22 SRBGND (in) "Current sense terminal (Connect Battery to cell’s GND)", 23 SRPGND (in) "Current-sense positive terminal when discharging relative to SRNGND, current-sense negative terminal when charging relative to SRGND. (Connect to pack GND)", 24 EEPROM (in) "Active-high EEPROM write-enable pin. During normal operation, should be connected to GND", 25 XALERT (oc) "Open-drain output used to indicate status register change. (Includes an internal 100-k ohm pullup to VLOG.)", 26 SDATA (io) "Open-drain bidirectional serial interface data with an internal 10-k ohm pullup to VLOG", 27 SCLK (in) "Open-drain bidirectional serial interface clock with an internal 10-k ohm pullup to VLOG", 28 XRST (out) "Power-on-reset output. Active-low open-drain output with an internal 3-k ohm pullup to VLOG", 29 IOUT (out) "Amplifier output for charge/discharge current measurement", 30 GND (power) "Power-supply ground", 31 VOUT (out) "Amplifier output for cell voltage measurement", 32 VLOG (in) "Data I/O voltage set by connecting either VREG1 or VREG2", 33 CNF0 (in) "Used cell for number determination in combination with CNF1 and CNF2", 34 CNF1 (in) "Used cell for number determination in combination with CNF0 and CNF2", 35 CNF2 (in) "Used cell for number determination in combination with CNF0 and CNF1", 36 ZEDE (in) "Protection delay test pin. Minimizes protection delay times when connected to VLOG. Programmed delay times used when pulled to GND, normal operation.", 37 GND (power) "Power-supply ground", 38 TIN (in) "Temperature sensing input", 39 TOUT (out) "Thermistor bias current source", 40 VREG2 (power) "Integrated 3.3-V regulator output", 41 GND (power) "Should be connected to GND", 42 VREG1 (power) "Integrated 5-V regulator output", 43 NC "No connect (not electrically connected)", 44 GPOD (hiz) "General-purpose N-CH FET open-drain output", 45 NC "No connect (not electrically connected)", 46 PMS (in) "Determines CHG output state for zero-volt charge", 47 PACK (power) "PACK positive terminal and alternative power source", 48 CHG "Charge FET gate drive"